# Altium integrated library NSC Comm CODEC Filter.IntLib: 31 symbols
Pins are listed as number, name and electrical type; pins without a type are passive.

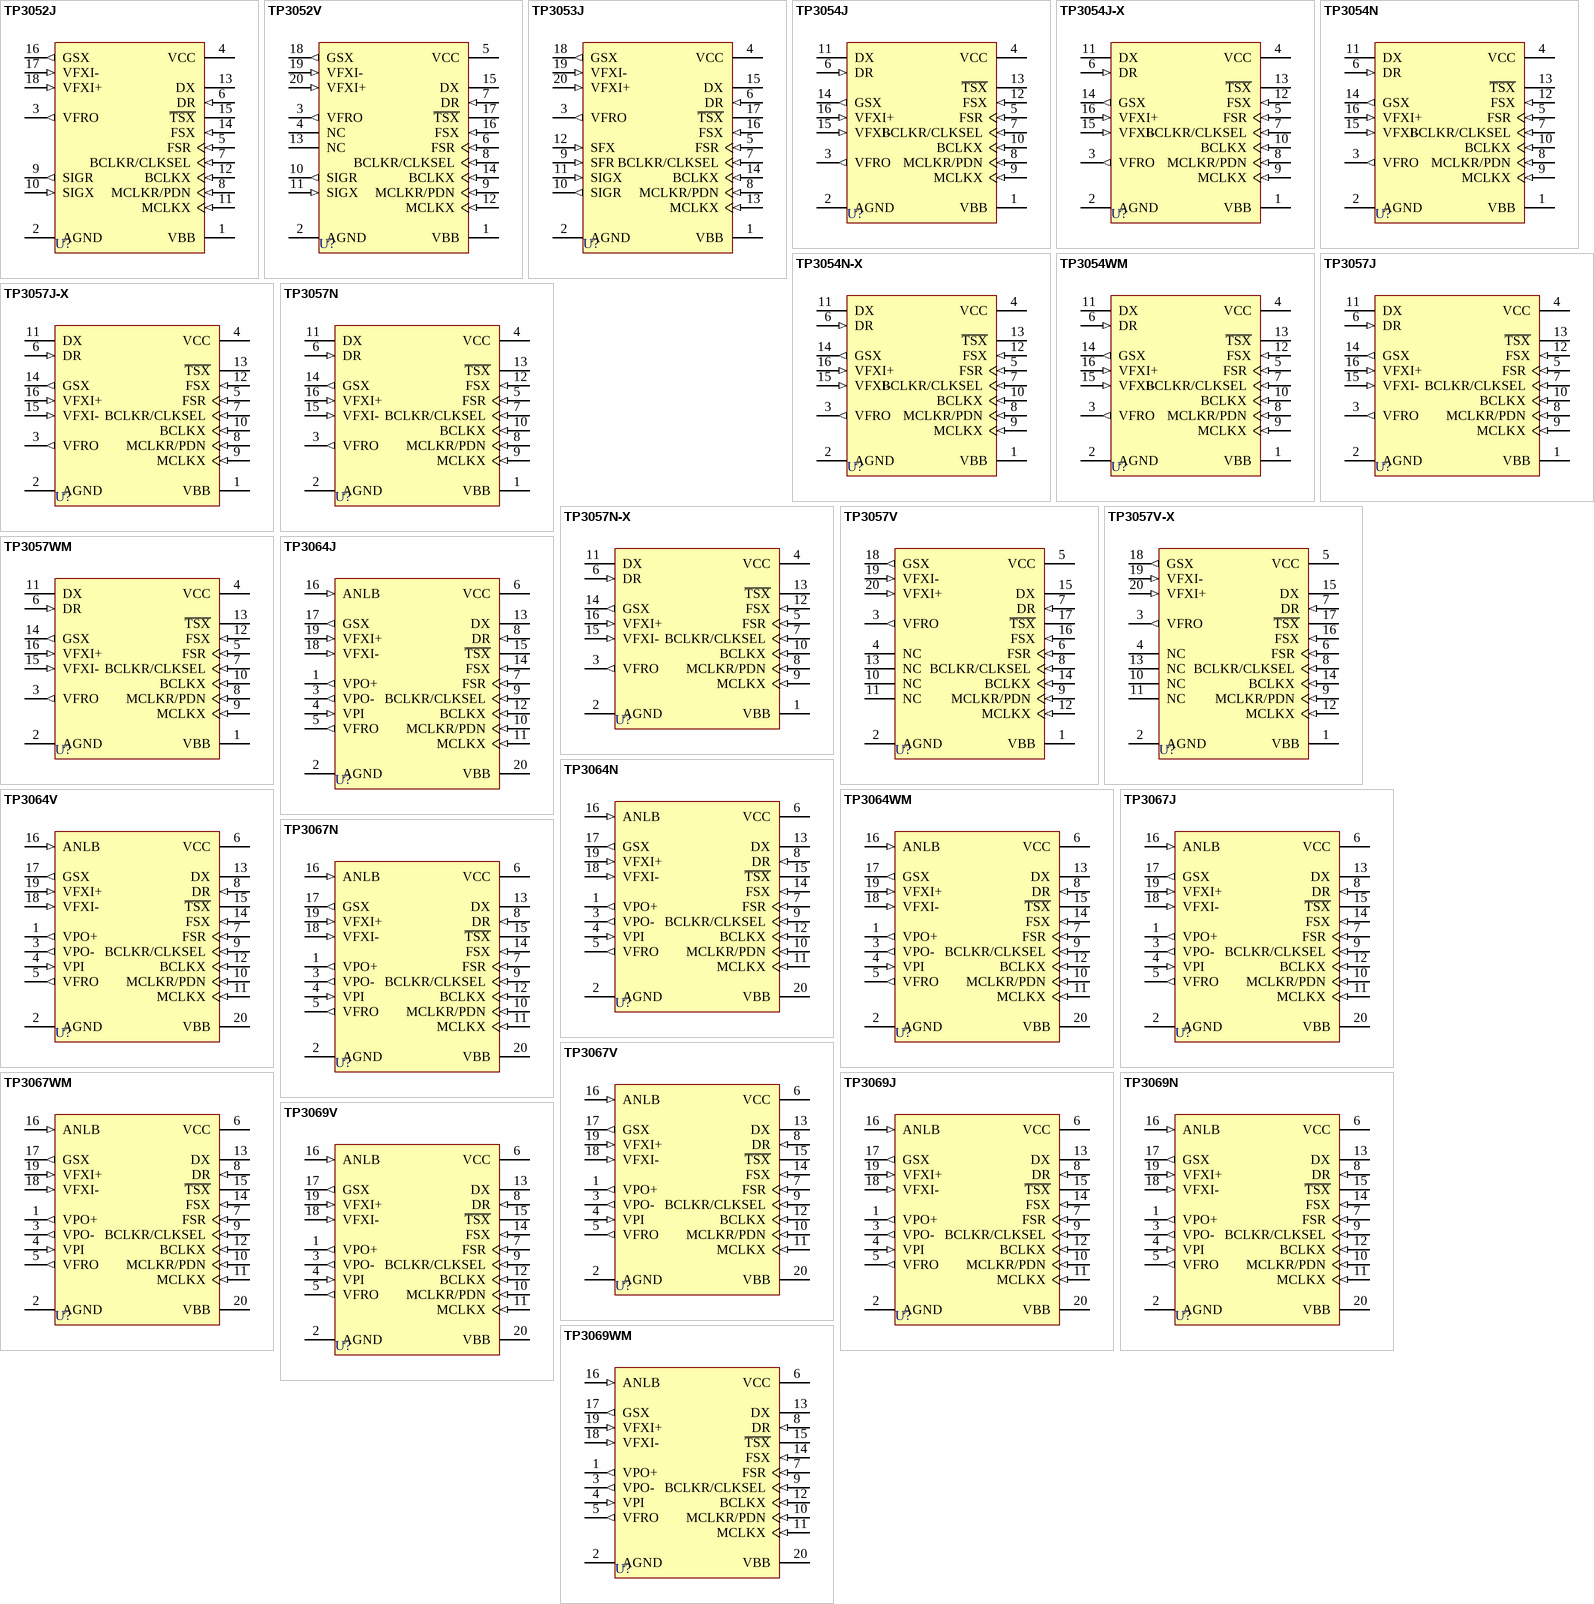
[diagram p0: symbols TP3052J to TP3069WM]

## TP3052J
designator U?
"Ruggedized" Serial Interface CODEC/Filter COMBO; Published: 15-Apr-2002; LatestRevisionDate: 06-Jun-2005; LatestRevisionNote: Stylized 3D Model Added.; DatasheetVersion: Mar-1991; PackageVersion: 1995; PackageReference: J18A; Publisher: Altium Limited; PackageDescription: DIP; 18 Leads; Row Spacing 7.62 mm; Pitch 2.54 mm; ComponentLink1Description: Manufacturer Link; ComponentLink1URL: http://www.national.com/
footprint J18A (DIP; 18 Leads; Row Spacing 7.62 mm; Pitch 2.54 mm)
3D model J18A (DIP; 18 Leads; Row Spacing 7.62 mm; Pitch 2.54 mm)
pins: 1 VBB (power), 2 AGND (power), 3 VFRO (out), 4 VCC (power), 5 FSR (in), 6 DR (in), 7 BCLKR/CLKSEL (in), 8 MCLKR/PDN (in), 9 SIGR (out), 10 SIGX (in), 11 MCLKX (in), 12 BCLKX (in), 13 DX (hiz), 14 FSX (in), 15 ~{TSX} (oc), 16 GSX (out), 17 VFXI- (in), 18 VFXI+ (in)

## TP3052V
designator U?
"Ruggedized" Serial Interface CODEC/Filter COMBO; Published: 15-Apr-2002; LatestRevisionDate: 13-Apr-2006; LatestRevisionNote: IPC-7351 Footprint Added.; DatasheetVersion: Mar-1991; PackageVersion: 1996; PackageReference: V20A; Publisher: Altium Limited; PackageDescription: 20-Pin Leaded Chip Carrier 1.27 mm Pitch; Code_IPC: PLCC-20; ComponentLink1Description: Manufacturer Link; ComponentLink1URL: http://www.national.com/
footprint V20A_N (Leaded Chip Carrier, 20-Leads, Body 9x9mm, Pitch 1.27mm, IPC Medium Density)
footprint V20A_L (Leaded Chip Carrier, 20-Leads, Body 9x9mm, Pitch 1.27mm, IPC High Density)
footprint V20A_M (Leaded Chip Carrier, 20-Leads, Body 9x9mm, Pitch 1.27mm, IPC Low Density)
3D model TP3052-V20A (20-Pin Leaded Chip Carrier 1.27 mm Pitch)
pins: 1 VBB (power), 2 AGND (power), 3 VFRO (out), 4 NC, 5 VCC (power), 6 FSR (in), 7 DR (in), 8 BCLKR/CLKSEL (in), 9 MCLKR/PDN (in), 10 SIGR (out), 11 SIGX (in), 12 MCLKX (in), 13 NC, 14 BCLKX (in), 15 DX (hiz), 16 FSX (in), 17 ~{TSX} (oc), 18 GSX (out), 19 VFXI- (in), 20 VFXI+ (in)

## TP3053J
designator U?
"Ruggedized" Serial Interface CODEC/Filter COMBO; Published: 15-Apr-2002; LatestRevisionDate: 06-Jun-2005; LatestRevisionNote: Stylized 3D Model Added.; DatasheetVersion: Mar-1991; PackageVersion: 2000; PackageReference: J20A; Publisher: Altium Limited; PackageDescription: DIP; 20 Leads; Row Spacing 7.62 mm; Pitch 2.54 mm; Code_JEDEC: MS-015-AE; ComponentLink1Description: Manufacturer Link; ComponentLink1URL: http://www.national.com/
footprint J20A (DIP; 20 Leads; Row Spacing 7.62 mm; Pitch 2.54 mm)
3D model J20A (DIP; 20 Leads; Row Spacing 7.62 mm; Pitch 2.54 mm)
pins: 1 VBB (power), 2 AGND (power), 3 VFRO (out), 4 VCC (power), 5 FSR (in), 6 DR (in), 7 BCLKR/CLKSEL (in), 8 MCLKR/PDN (in), 9 SFR (in), 10 SIGR (out), 11 SIGX (in), 12 SFX (in), 13 MCLKX (in), 14 BCLKX (in), 15 DX (hiz), 16 FSX (in), 17 ~{TSX} (oc), 18 GSX (out), 19 VFXI- (in), 20 VFXI+ (in)

## TP3054J
designator U?
"Ruggedized" Serial Interface CODEC/Filter COMBO; ComponentAvailability: Obsolete; Published: 15-Apr-2002; LatestRevisionDate: 06-Jun-2005; LatestRevisionNote: Stylized 3D Model Added.; DatasheetVersion: Mar-1991; PackageVersion: 2000; PackageReference: J16A; Publisher: Altium Limited; PackageDescription: DIP; 16 Leads; Row Spacing 7.62 mm; Pitch 2.54 mm; ComponentLink1Description: Manufacturer Link; ComponentLink1URL: http://www.national.com/; ComponentLink2Description: Datasheet; ComponentLink2URL: http://www.national.com/ds.cgi/TP/TP3054.pdf; ComponentLink3Description: Discontinuation Notice; ComponentLink3URL: http://www.national.com/obs/obsolescence.txt; ComponentLink4Description: URL Link1; ComponentLink4URL: http://www.national.com/pf/TP/TP3054.html
footprint J16A (DIP; 16 Leads; Row Spacing 7.62 mm; Pitch 2.54 mm)
3D model J16A (DIP; 16 Leads; Row Spacing 7.62 mm; Pitch 2.54 mm)
pins: 1 VBB (power), 2 AGND (power), 3 VFRO (out), 4 VCC (power), 5 FSR (in), 6 DR (in), 7 BCLKR/CLKSEL (in), 8 MCLKR/PDN (in), 9 MCLKX (in), 10 BCLKX (in), 11 DX (hiz), 12 FSX (in), 13 ~{TSX} (oc), 14 GSX (out), 15 VFXI- (in), 16 VFXI+ (in)

## TP3054J-X
designator U?
"Enhanced" Serial Interface CODEC/Filter COMBO; Published: 15-Apr-2002; LatestRevisionDate: 06-Jun-2005; LatestRevisionNote: Stylized 3D Model Added.; DatasheetVersion: Sep-1994; PackageVersion: 2000; PackageReference: J16A; Publisher: Altium Limited; PackageDescription: DIP; 16 Leads; Row Spacing 7.62 mm; Pitch 2.54 mm; ComponentLink1Description: Manufacturer Link; ComponentLink1URL: http://www.national.com/; ComponentLink2Description: Datasheet; ComponentLink2URL: http://www.national.com/ds.cgi/TP/TP3052-X.pdf; ComponentLink3Description: URL Link1; ComponentLink3URL: http://www.national.com/pf/TP/TP3054-X.html
footprint J16A (DIP; 16 Leads; Row Spacing 7.62 mm; Pitch 2.54 mm)
3D model J16A (DIP; 16 Leads; Row Spacing 7.62 mm; Pitch 2.54 mm)
pins: 1 VBB (power), 2 AGND (power), 3 VFRO (out), 4 VCC (power), 5 FSR (in), 6 DR (in), 7 BCLKR/CLKSEL (in), 8 MCLKR/PDN (in), 9 MCLKX (in), 10 BCLKX (in), 11 DX (hiz), 12 FSX (in), 13 ~{TSX} (oc), 14 GSX (out), 15 VFXI- (in), 16 VFXI+ (in)

## TP3054N
designator U?
"Ruggedized" Serial Interface CODEC/Filter COMBO; Published: 15-Apr-2002; LatestRevisionDate: 06-Jun-2005; LatestRevisionNote: Stylized 3D Model Added.; DatasheetVersion: Mar-1991; PackageVersion: 2000; PackageReference: N16A; Publisher: Altium Limited; PackageDescription: DIP; 16 Leads; Row Spacing 7.62 mm; Pitch 2.54 mm; ComponentLink1Description: Manufacturer Link; ComponentLink1URL: http://www.national.com/; ComponentLink2Description: Datasheet; ComponentLink2URL: http://www.national.com/ds.cgi/TP/TP3054.pdf; ComponentLink3Description: URL Link1; ComponentLink3URL: http://www.national.com/pf/TP/TP3054.html
footprint N16A (DIP; 16 Leads; Row Spacing 7.62 mm; Pitch 2.54 mm)
3D model N16A (DIP; 16 Leads; Row Spacing 7.62 mm; Pitch 2.54 mm)
pins: 1 VBB (power), 2 AGND (power), 3 VFRO (out), 4 VCC (power), 5 FSR (in), 6 DR (in), 7 BCLKR/CLKSEL (in), 8 MCLKR/PDN (in), 9 MCLKX (in), 10 BCLKX (in), 11 DX (hiz), 12 FSX (in), 13 ~{TSX} (oc), 14 GSX (out), 15 VFXI- (in), 16 VFXI+ (in)

## TP3054N-X
designator U?
"Enhanced" Serial Interface CODEC/Filter COMBO; Published: 15-Apr-2002; LatestRevisionDate: 06-Jun-2005; LatestRevisionNote: Stylized 3D Model Added.; DatasheetVersion: Sep-1994; PackageVersion: 2000; PackageReference: N16A; Publisher: Altium Limited; PackageDescription: DIP; 16 Leads; Row Spacing 7.62 mm; Pitch 2.54 mm; ComponentLink1Description: Manufacturer Link; ComponentLink1URL: http://www.national.com/; ComponentLink2Description: Datasheet; ComponentLink2URL: http://www.national.com/ds.cgi/TP/TP3052-X.pdf; ComponentLink3Description: URL Link1; ComponentLink3URL: http://www.national.com/pf/TP/TP3054-X.html
footprint N16A (DIP; 16 Leads; Row Spacing 7.62 mm; Pitch 2.54 mm)
3D model N16A (DIP; 16 Leads; Row Spacing 7.62 mm; Pitch 2.54 mm)
pins: 1 VBB (power), 2 AGND (power), 3 VFRO (out), 4 VCC (power), 5 FSR (in), 6 DR (in), 7 BCLKR/CLKSEL (in), 8 MCLKR/PDN (in), 9 MCLKX (in), 10 BCLKX (in), 11 DX (hiz), 12 FSX (in), 13 ~{TSX} (oc), 14 GSX (out), 15 VFXI- (in), 16 VFXI+ (in)

## TP3054WM
designator U?
"Ruggedized" Serial Interface CODEC/Filter COMBO; Published: 15-Apr-2002; LatestRevisionDate: 13-Apr-2006; LatestRevisionNote: IPC-7351 Footprint Added.; DatasheetVersion: Mar-1991; PackageVersion: 2000; PackageReference: M16B; Publisher: Altium Limited; PackageDescription: 16-Pin Small Outline Integrated Circuit 1.27 mm Pitch; Code_JEDEC: MS-013-AA; Code_IPC: SOIC127P1030-16; ComponentLink1Description: Manufacturer Link; ComponentLink1URL: http://www.national.com/; ComponentLink2Description: Datasheet; ComponentLink2URL: http://www.national.com/ds.cgi/TP/TP3054.pdf; ComponentLink3Description: URL Link1; ComponentLink3URL: http://www.national.com/pf/TP/TP3054.html
footprint M16B_N (SOIC, 16-Leads, Body 10.3x7.5mm, Pitch 1.27mm, IPC Medium Density)
footprint M16B_L (SOIC, 16-Leads, Body 10.3x7.5mm, Pitch 1.27mm, IPC High Density)
footprint M16B_M (SOIC, 16-Leads, Body 10.3x7.5mm, Pitch 1.27mm, IPC Low Density)
3D model M16B (16-Pin Small Outline Integrated Circuit 1.27 mm Pitch)
pins: 1 VBB (power), 2 AGND (power), 3 VFRO (out), 4 VCC (power), 5 FSR (in), 6 DR (in), 7 BCLKR/CLKSEL (in), 8 MCLKR/PDN (in), 9 MCLKX (in), 10 BCLKX (in), 11 DX (hiz), 12 FSX (in), 13 ~{TSX} (oc), 14 GSX (out), 15 VFXI- (in), 16 VFXI+ (in)

## TP3057J
designator U?
"Ruggedized" Serial Interface CODEC/Filter COMBO; ComponentAvailability: Obsolete; Published: 15-Apr-2002; LatestRevisionDate: 06-Jun-2005; LatestRevisionNote: Stylized 3D Model Added.; DatasheetVersion: Mar-1991; PackageVersion: 2000; PackageReference: J16A; Publisher: Altium Limited; PackageDescription: DIP; 16 Leads; Row Spacing 7.62 mm; Pitch 2.54 mm; ComponentLink1Description: Manufacturer Link; ComponentLink1URL: http://www.national.com/; ComponentLink2Description: Datasheet; ComponentLink2URL: http://www.national.com/ds.cgi/TP/TP3054.pdf; ComponentLink3Description: Discontinuation Notice; ComponentLink3URL: http://www.national.com/obs/obsolescence.txt; ComponentLink4Description: URL Link1; ComponentLink4URL: http://www.national.com/pf/TP/TP3057.html
footprint J16A (DIP; 16 Leads; Row Spacing 7.62 mm; Pitch 2.54 mm)
3D model J16A (DIP; 16 Leads; Row Spacing 7.62 mm; Pitch 2.54 mm)
pins: 1 VBB (power), 2 AGND (power), 3 VFRO (out), 4 VCC (power), 5 FSR (in), 6 DR (in), 7 BCLKR/CLKSEL (in), 8 MCLKR/PDN (in), 9 MCLKX (in), 10 BCLKX (in), 11 DX (hiz), 12 FSX (in), 13 ~{TSX} (oc), 14 GSX (out), 15 VFXI- (in), 16 VFXI+ (in)

## TP3057J-X
designator U?
"Enhanced" Serial Interface CODEC/Filter COMBO; ComponentAvailability: Obsolete; Published: 15-Apr-2002; LatestRevisionDate: 06-Jun-2005; LatestRevisionNote: Stylized 3D Model Added.; DatasheetVersion: Sep-1994; PackageVersion: 2000; PackageReference: J16A; Publisher: Altium Limited; PackageDescription: DIP; 16 Leads; Row Spacing 7.62 mm; Pitch 2.54 mm; ComponentLink1Description: Manufacturer Link; ComponentLink1URL: http://www.national.com/; ComponentLink2Description: Datasheet; ComponentLink2URL: http://www.national.com/ds.cgi/TP/TP3052-X.pdf; ComponentLink3Description: Discontinuation Notice; ComponentLink3URL: http://www.national.com/obs/obsolescence.txt; ComponentLink4Description: URL Link1; ComponentLink4URL: http://www.national.com/pf/TP/TP3057-X.html
footprint J16A (DIP; 16 Leads; Row Spacing 7.62 mm; Pitch 2.54 mm)
3D model J16A (DIP; 16 Leads; Row Spacing 7.62 mm; Pitch 2.54 mm)
pins: 1 VBB (power), 2 AGND (power), 3 VFRO (out), 4 VCC (power), 5 FSR (in), 6 DR (in), 7 BCLKR/CLKSEL (in), 8 MCLKR/PDN (in), 9 MCLKX (in), 10 BCLKX (in), 11 DX (hiz), 12 FSX (in), 13 ~{TSX} (oc), 14 GSX (out), 15 VFXI- (in), 16 VFXI+ (in)

## TP3057N
designator U?
"Ruggedized" Serial Interface CODEC/Filter COMBO; Published: 15-Apr-2002; LatestRevisionDate: 06-Jun-2005; LatestRevisionNote: Stylized 3D Model Added.; DatasheetVersion: Mar-1991; PackageVersion: 2000; PackageReference: N16A; Publisher: Altium Limited; PackageDescription: DIP; 16 Leads; Row Spacing 7.62 mm; Pitch 2.54 mm; ComponentLink1Description: Manufacturer Link; ComponentLink1URL: http://www.national.com/; ComponentLink2Description: Datasheet; ComponentLink2URL: http://www.national.com/ds.cgi/TP/TP3054.pdf; ComponentLink3Description: URL Link1; ComponentLink3URL: http://www.national.com/pf/TP/TP3057.html
footprint N16A (DIP; 16 Leads; Row Spacing 7.62 mm; Pitch 2.54 mm)
3D model N16A (DIP; 16 Leads; Row Spacing 7.62 mm; Pitch 2.54 mm)
pins: 1 VBB (power), 2 AGND (power), 3 VFRO (out), 4 VCC (power), 5 FSR (in), 6 DR (in), 7 BCLKR/CLKSEL (in), 8 MCLKR/PDN (in), 9 MCLKX (in), 10 BCLKX (in), 11 DX (hiz), 12 FSX (in), 13 ~{TSX} (oc), 14 GSX (out), 15 VFXI- (in), 16 VFXI+ (in)

## TP3057N-X
designator U?
"Enhanced" Serial Interface CODEC/Filter COMBO; ComponentAvailability: Obsolete; Published: 15-Apr-2002; LatestRevisionDate: 06-Jun-2005; LatestRevisionNote: Stylized 3D Model Added.; DatasheetVersion: Sep-1994; PackageVersion: 2000; PackageReference: N16A; Publisher: Altium Limited; PackageDescription: DIP; 16 Leads; Row Spacing 7.62 mm; Pitch 2.54 mm; ComponentLink1Description: Manufacturer Link; ComponentLink1URL: http://www.national.com/; ComponentLink2Description: Datasheet; ComponentLink2URL: http://www.national.com/ds.cgi/TP/TP3052-X.pdf; ComponentLink3Description: Discontinuation Notice; ComponentLink3URL: http://www.national.com/obs/obsolescence.txt; ComponentLink4Description: URL Link1; ComponentLink4URL: http://www.national.com/pf/TP/TP3057-X.html
footprint N16A (DIP; 16 Leads; Row Spacing 7.62 mm; Pitch 2.54 mm)
3D model N16A (DIP; 16 Leads; Row Spacing 7.62 mm; Pitch 2.54 mm)
pins: 1 VBB (power), 2 AGND (power), 3 VFRO (out), 4 VCC (power), 5 FSR (in), 6 DR (in), 7 BCLKR/CLKSEL (in), 8 MCLKR/PDN (in), 9 MCLKX (in), 10 BCLKX (in), 11 DX (hiz), 12 FSX (in), 13 ~{TSX} (oc), 14 GSX (out), 15 VFXI- (in), 16 VFXI+ (in)

## TP3057V
designator U?
"Ruggedized" Serial Interface CODEC/Filter COMBO; Published: 15-Apr-2002; LatestRevisionDate: 13-Apr-2006; LatestRevisionNote: IPC-7351 Footprint Added.; DatasheetVersion: Mar-1991; PackageVersion: 1996; PackageReference: V20A; Publisher: Altium Limited; PackageDescription: 20-Pin Leaded Chip Carrier 1.27 mm Pitch; Code_IPC: PLCC-20; ComponentLink1Description: Manufacturer Link; ComponentLink1URL: http://www.national.com/; ComponentLink2Description: Datasheet; ComponentLink2URL: http://www.national.com/ds.cgi/TP/TP3054.pdf; ComponentLink3Description: URL Link1; ComponentLink3URL: http://www.national.com/pf/TP/TP3057.html
footprint V20A_N (Leaded Chip Carrier, 20-Leads, Body 9x9mm, Pitch 1.27mm, IPC Medium Density)
footprint V20A_L (Leaded Chip Carrier, 20-Leads, Body 9x9mm, Pitch 1.27mm, IPC High Density)
footprint V20A_M (Leaded Chip Carrier, 20-Leads, Body 9x9mm, Pitch 1.27mm, IPC Low Density)
3D model TP3057-V20A (20-Pin Leaded Chip Carrier 1.27 mm Pitch)
pins: 1 VBB (power), 2 AGND (power), 3 VFRO (out), 4 NC, 5 VCC (power), 6 FSR (in), 7 DR (in), 8 BCLKR/CLKSEL (in), 9 MCLKR/PDN (in), 10 NC, 11 NC, 12 MCLKX (in), 13 NC, 14 BCLKX (in), 15 DX (hiz), 16 FSX (in), 17 ~{TSX} (oc), 18 GSX (out), 19 VFXI- (in), 20 VFXI+ (in)

## TP3057V-X
designator U?
"Enhanced" Serial Interface CODEC/Filter COMBO; Published: 15-Apr-2002; LatestRevisionDate: 13-Apr-2006; LatestRevisionNote: IPC-7351 Footprint Added.; DatasheetVersion: Sep-1994; PackageVersion: 1996; PackageReference: V20A; Publisher: Altium Limited; PackageDescription: 20-Pin Leaded Chip Carrier 1.27 mm Pitch; Code_IPC: PLCC-20; ComponentLink1Description: Manufacturer Link; ComponentLink1URL: http://www.national.com/; ComponentLink2Description: Datasheet; ComponentLink2URL: http://www.national.com/ds.cgi/TP/TP3052-X.pdf; ComponentLink3Description: URL Link1; ComponentLink3URL: http://www.national.com/pf/TP/TP3057-X.html
footprint V20A_N (Leaded Chip Carrier, 20-Leads, Body 9x9mm, Pitch 1.27mm, IPC Medium Density)
footprint V20A_L (Leaded Chip Carrier, 20-Leads, Body 9x9mm, Pitch 1.27mm, IPC High Density)
footprint V20A_M (Leaded Chip Carrier, 20-Leads, Body 9x9mm, Pitch 1.27mm, IPC Low Density)
3D model TP3057-V20A (20-Pin Leaded Chip Carrier 1.27 mm Pitch)
pins: 1 VBB (power), 2 AGND (power), 3 VFRO (out), 4 NC, 5 VCC (power), 6 FSR (in), 7 DR (in), 8 BCLKR/CLKSEL (in), 9 MCLKR/PDN (in), 10 NC, 11 NC, 12 MCLKX (in), 13 NC, 14 BCLKX (in), 15 DX (hiz), 16 FSX (in), 17 ~{TSX} (oc), 18 GSX (out), 19 VFXI- (in), 20 VFXI+ (in)

## TP3057WM
designator U?
"Ruggedized" Serial Interface CODEC/Filter COMBO; Published: 15-Apr-2002; LatestRevisionDate: 13-Apr-2006; LatestRevisionNote: IPC-7351 Footprint Added.; DatasheetVersion: Mar-1991; PackageVersion: 2000; PackageReference: M16B; Publisher: Altium Limited; PackageDescription: 16-Pin Small Outline Integrated Circuit 1.27 mm Pitch; Code_JEDEC: MS-013-AA; Code_IPC: SOIC127P1030-16; ComponentLink1Description: Manufacturer Link; ComponentLink1URL: http://www.national.com/; ComponentLink2Description: Datasheet; ComponentLink2URL: http://www.national.com/ds.cgi/TP/TP3054.pdf; ComponentLink3Description: URL Link1; ComponentLink3URL: http://www.national.com/pf/TP/TP3057.html
footprint M16B_N (SOIC, 16-Leads, Body 10.3x7.5mm, Pitch 1.27mm, IPC Medium Density)
footprint M16B_L (SOIC, 16-Leads, Body 10.3x7.5mm, Pitch 1.27mm, IPC High Density)
footprint M16B_M (SOIC, 16-Leads, Body 10.3x7.5mm, Pitch 1.27mm, IPC Low Density)
3D model M16B (16-Pin Small Outline Integrated Circuit 1.27 mm Pitch)
pins: 1 VBB (power), 2 AGND (power), 3 VFRO (out), 4 VCC (power), 5 FSR (in), 6 DR (in), 7 BCLKR/CLKSEL (in), 8 MCLKR/PDN (in), 9 MCLKX (in), 10 BCLKX (in), 11 DX (hiz), 12 FSX (in), 13 ~{TSX} (oc), 14 GSX (out), 15 VFXI- (in), 16 VFXI+ (in)

## TP3064J
designator U?
"Enhanced" Serial Interface CMOS CODEC/Filter COMBO; ComponentAvailability: Obsolete; Published: 15-Apr-2002; LatestRevisionDate: 06-Jun-2005; LatestRevisionNote: Stylized 3D Model Added.; DatasheetVersion: Oct-1991; PackageVersion: 2000; PackageReference: J20A; Publisher: Altium Limited; PackageDescription: DIP; 20 Leads; Row Spacing 7.62 mm; Pitch 2.54 mm; Code_JEDEC: MS-015-AE; ComponentLink1Description: Manufacturer Link; ComponentLink1URL: http://www.national.com/; ComponentLink2Description: Datasheet; ComponentLink2URL: http://www.national.com/ds.cgi/TP/TP3064.pdf; ComponentLink3Description: Discontinuation Notice; ComponentLink3URL: http://www.national.com/obs/obsolescence.txt; ComponentLink4Description: URL Link1; ComponentLink4URL: http://www.national.com/pf/TP/TP3064.html
footprint J20A (DIP; 20 Leads; Row Spacing 7.62 mm; Pitch 2.54 mm)
3D model J20A (DIP; 20 Leads; Row Spacing 7.62 mm; Pitch 2.54 mm)
pins: 1 VPO+ (out), 2 AGND (power), 3 VPO- (out), 4 VPI (in), 5 VFRO (out), 6 VCC (power), 7 FSR (in), 8 DR (in), 9 BCLKR/CLKSEL (in), 10 MCLKR/PDN (in), 11 MCLKX (in), 12 BCLKX (in), 13 DX (hiz), 14 FSX (in), 15 ~{TSX} (oc), 16 ANLB (in), 17 GSX (out), 18 VFXI- (in), 19 VFXI+ (in), 20 VBB (power)

## TP3064N
designator U?
"Enhanced" Serial Interface CMOS CODEC/Filter COMBO; ComponentAvailability: Obsolete; Published: 15-Apr-2002; LatestRevisionDate: 06-Jun-2005; LatestRevisionNote: Stylized 3D Model Added.; DatasheetVersion: Oct-1991; PackageVersion: 2000; PackageReference: N20A; Publisher: Altium Limited; PackageDescription: DIP; 20 Leads; Row Spacing 7.62 mm; Pitch 2.54 mm; Code_JEDEC: MS-001-AD; ComponentLink1Description: Manufacturer Link; ComponentLink1URL: http://www.national.com/; ComponentLink2Description: Datasheet; ComponentLink2URL: http://www.national.com/ds.cgi/TP/TP3064.pdf; ComponentLink3Description: Discontinuation Notice; ComponentLink3URL: http://www.national.com/obs/obsolescence.txt; ComponentLink4Description: URL Link1; ComponentLink4URL: http://www.national.com/pf/TP/TP3064.html
footprint N20A (DIP; 20 Leads; Row Spacing 7.62 mm; Pitch 2.54 mm)
3D model N20A (DIP; 20 Leads; Row Spacing 7.62 mm; Pitch 2.54 mm)
pins: 1 VPO+ (out), 2 AGND (power), 3 VPO- (out), 4 VPI (in), 5 VFRO (out), 6 VCC (power), 7 FSR (in), 8 DR (in), 9 BCLKR/CLKSEL (in), 10 MCLKR/PDN (in), 11 MCLKX (in), 12 BCLKX (in), 13 DX (hiz), 14 FSX (in), 15 ~{TSX} (oc), 16 ANLB (in), 17 GSX (out), 18 VFXI- (in), 19 VFXI+ (in), 20 VBB (power)

## TP3064V
designator U?
"Enhanced" Serial Interface CMOS CODEC/Filter COMBO; Published: 15-Apr-2002; LatestRevisionDate: 13-Apr-2006; LatestRevisionNote: IPC-7351 Footprint Added.; DatasheetVersion: Oct-1991; PackageVersion: 1996; PackageReference: V20A; Publisher: Altium Limited; PackageDescription: 20-Pin Leaded Chip Carrier 1.27 mm Pitch; Code_IPC: PLCC-20; ComponentLink1Description: Manufacturer Link; ComponentLink1URL: http://www.national.com/; ComponentLink2Description: Datasheet; ComponentLink2URL: http://www.national.com/ds.cgi/TP/TP3064.pdf; ComponentLink3Description: URL Link1; ComponentLink3URL: http://www.national.com/pf/TP/TP3064.html
footprint V20A_N (Leaded Chip Carrier, 20-Leads, Body 9x9mm, Pitch 1.27mm, IPC Medium Density)
footprint V20A_L (Leaded Chip Carrier, 20-Leads, Body 9x9mm, Pitch 1.27mm, IPC High Density)
footprint V20A_M (Leaded Chip Carrier, 20-Leads, Body 9x9mm, Pitch 1.27mm, IPC Low Density)
3D model TP3064-V20A (20-Pin Leaded Chip Carrier 1.27 mm Pitch)
pins: 1 VPO+ (out), 2 AGND (power), 3 VPO- (out), 4 VPI (in), 5 VFRO (out), 6 VCC (power), 7 FSR (in), 8 DR (in), 9 BCLKR/CLKSEL (in), 10 MCLKR/PDN (in), 11 MCLKX (in), 12 BCLKX (in), 13 DX (hiz), 14 FSX (in), 15 ~{TSX} (oc), 16 ANLB (in), 17 GSX (out), 18 VFXI- (in), 19 VFXI+ (in), 20 VBB (power)

## TP3064WM
designator U?
"Enhanced" Serial Interface CMOS CODEC/Filter COMBO; Published: 15-Apr-2002; LatestRevisionDate: 13-Apr-2006; LatestRevisionNote: IPC-7351 Footprint Added.; DatasheetVersion: Oct-1991; PackageVersion: 2000; PackageReference: M20B; Publisher: Altium Limited; PackageDescription: 20-Pin Small Outline Integrated Circuit 1.27 mm Pitch; Code_JEDEC: MS-013-AC; Code_IPC: SOIC127P1030-20; ComponentLink1Description: Manufacturer Link; ComponentLink1URL: http://www.national.com/; ComponentLink2Description: Datasheet; ComponentLink2URL: http://www.national.com/ds.cgi/TP/TP3064.pdf; ComponentLink3Description: URL Link1; ComponentLink3URL: http://www.national.com/pf/TP/TP3064.html
footprint M20B_N (SOIC, 20-Leads, Body 12.8x7.5mm, Pitch 1.27mm, IPC Medium Density)
footprint M20B_L (SOIC, 20-Leads, Body 12.8x7.5mm, Pitch 1.27mm, IPC High Density)
footprint M20B_M (SOIC, 20-Leads, Body 12.8x7.5mm, Pitch 1.27mm, IPC Low Density)
3D model M20B (20-Pin Small Outline Integrated Circuit 1.27 mm Pitch)
pins: 1 VPO+ (out), 2 AGND (power), 3 VPO- (out), 4 VPI (in), 5 VFRO (out), 6 VCC (power), 7 FSR (in), 8 DR (in), 9 BCLKR/CLKSEL (in), 10 MCLKR/PDN (in), 11 MCLKX (in), 12 BCLKX (in), 13 DX (hiz), 14 FSX (in), 15 ~{TSX} (oc), 16 ANLB (in), 17 GSX (out), 18 VFXI- (in), 19 VFXI+ (in), 20 VBB (power)

## TP3067J
designator U?
"Enhanced" Serial Interface CMOS CODEC/Filter COMBO; ComponentAvailability: Obsolete; Published: 15-Apr-2002; LatestRevisionDate: 06-Jun-2005; LatestRevisionNote: Stylized 3D Model Added.; DatasheetVersion: Oct-1991; PackageVersion: 2000; PackageReference: J20A; Publisher: Altium Limited; PackageDescription: DIP; 20 Leads; Row Spacing 7.62 mm; Pitch 2.54 mm; Code_JEDEC: MS-015-AE; ComponentLink1Description: Manufacturer Link; ComponentLink1URL: http://www.national.com/; ComponentLink2Description: Datasheet; ComponentLink2URL: http://www.national.com/ds.cgi/TP/TP3064.pdf; ComponentLink3Description: Discontinuation Notice; ComponentLink3URL: http://www.national.com/obs/obsolescence.txt; ComponentLink4Description: URL Link1; ComponentLink4URL: http://www.national.com/pf/TP/TP3067.html
footprint J20A (DIP; 20 Leads; Row Spacing 7.62 mm; Pitch 2.54 mm)
3D model J20A (DIP; 20 Leads; Row Spacing 7.62 mm; Pitch 2.54 mm)
pins: 1 VPO+ (out), 2 AGND (power), 3 VPO- (out), 4 VPI (in), 5 VFRO (out), 6 VCC (power), 7 FSR (in), 8 DR (in), 9 BCLKR/CLKSEL (in), 10 MCLKR/PDN (in), 11 MCLKX (in), 12 BCLKX (in), 13 DX (hiz), 14 FSX (in), 15 ~{TSX} (oc), 16 ANLB (in), 17 GSX (out), 18 VFXI- (in), 19 VFXI+ (in), 20 VBB (power)

## TP3067N
designator U?
"Enhanced" Serial Interface CMOS CODEC/Filter COMBO; Published: 15-Apr-2002; LatestRevisionDate: 06-Jun-2005; LatestRevisionNote: Stylized 3D Model Added.; DatasheetVersion: Oct-1991; PackageVersion: 2000; PackageReference: N20A; Publisher: Altium Limited; PackageDescription: DIP; 20 Leads; Row Spacing 7.62 mm; Pitch 2.54 mm; Code_JEDEC: MS-001-AD; ComponentLink1Description: Manufacturer Link; ComponentLink1URL: http://www.national.com/; ComponentLink2Description: Datasheet; ComponentLink2URL: http://www.national.com/ds.cgi/TP/TP3064.pdf; ComponentLink3Description: URL Link1; ComponentLink3URL: http://www.national.com/pf/TP/TP3067.html
footprint N20A (DIP; 20 Leads; Row Spacing 7.62 mm; Pitch 2.54 mm)
3D model N20A (DIP; 20 Leads; Row Spacing 7.62 mm; Pitch 2.54 mm)
pins: 1 VPO+ (out), 2 AGND (power), 3 VPO- (out), 4 VPI (in), 5 VFRO (out), 6 VCC (power), 7 FSR (in), 8 DR (in), 9 BCLKR/CLKSEL (in), 10 MCLKR/PDN (in), 11 MCLKX (in), 12 BCLKX (in), 13 DX (hiz), 14 FSX (in), 15 ~{TSX} (oc), 16 ANLB (in), 17 GSX (out), 18 VFXI- (in), 19 VFXI+ (in), 20 VBB (power)

## TP3067V
designator U?
"Enhanced" Serial Interface CMOS CODEC/Filter COMBO; Published: 15-Apr-2002; LatestRevisionDate: 13-Apr-2006; LatestRevisionNote: IPC-7351 Footprint Added.; DatasheetVersion: Oct-1991; PackageVersion: 1996; PackageReference: V20A; Publisher: Altium Limited; PackageDescription: 20-Pin Leaded Chip Carrier 1.27 mm Pitch; Code_IPC: PLCC-20; ComponentLink1Description: Manufacturer Link; ComponentLink1URL: http://www.national.com/; ComponentLink2Description: Datasheet; ComponentLink2URL: http://www.national.com/ds.cgi/TP/TP3064.pdf; ComponentLink3Description: URL Link1; ComponentLink3URL: http://www.national.com/pf/TP/TP3067.html
footprint V20A_N (Leaded Chip Carrier, 20-Leads, Body 9x9mm, Pitch 1.27mm, IPC Medium Density)
footprint V20A_L (Leaded Chip Carrier, 20-Leads, Body 9x9mm, Pitch 1.27mm, IPC High Density)
footprint V20A_M (Leaded Chip Carrier, 20-Leads, Body 9x9mm, Pitch 1.27mm, IPC Low Density)
3D model TP3067-V20A (20-Pin Leaded Chip Carrier 1.27 mm Pitch)
pins: 1 VPO+ (out), 2 AGND (power), 3 VPO- (out), 4 VPI (in), 5 VFRO (out), 6 VCC (power), 7 FSR (in), 8 DR (in), 9 BCLKR/CLKSEL (in), 10 MCLKR/PDN (in), 11 MCLKX (in), 12 BCLKX (in), 13 DX (hiz), 14 FSX (in), 15 ~{TSX} (oc), 16 ANLB (in), 17 GSX (out), 18 VFXI- (in), 19 VFXI+ (in), 20 VBB (power)

## TP3067WM
designator U?
"Enhanced" Serial Interface CMOS CODEC/Filter COMBO; Published: 15-Apr-2002; LatestRevisionDate: 13-Apr-2006; LatestRevisionNote: IPC-7351 Footprint Added.; DatasheetVersion: Oct-1991; PackageVersion: 2000; PackageReference: M20B; Publisher: Altium Limited; PackageDescription: 20-Pin Small Outline Integrated Circuit 1.27 mm Pitch; Code_JEDEC: MS-013-AC; Code_IPC: SOIC127P1030-20; ComponentLink1Description: Manufacturer Link; ComponentLink1URL: http://www.national.com/; ComponentLink2Description: Datasheet; ComponentLink2URL: http://www.national.com/ds.cgi/TP/TP3064.pdf; ComponentLink3Description: URL Link1; ComponentLink3URL: http://www.national.com/pf/TP/TP3067.html
footprint M20B_N (SOIC, 20-Leads, Body 12.8x7.5mm, Pitch 1.27mm, IPC Medium Density)
footprint M20B_L (SOIC, 20-Leads, Body 12.8x7.5mm, Pitch 1.27mm, IPC High Density)
footprint M20B_M (SOIC, 20-Leads, Body 12.8x7.5mm, Pitch 1.27mm, IPC Low Density)
3D model M20B (20-Pin Small Outline Integrated Circuit 1.27 mm Pitch)
pins: 1 VPO+ (out), 2 AGND (power), 3 VPO- (out), 4 VPI (in), 5 VFRO (out), 6 VCC (power), 7 FSR (in), 8 DR (in), 9 BCLKR/CLKSEL (in), 10 MCLKR/PDN (in), 11 MCLKX (in), 12 BCLKX (in), 13 DX (hiz), 14 FSX (in), 15 ~{TSX} (oc), 16 ANLB (in), 17 GSX (out), 18 VFXI- (in), 19 VFXI+ (in), 20 VBB (power)

## TP3069J
designator U?
"Enhanced" Serial Interface CMOS CODEC/Filter COMBO; ComponentAvailability: Obsolete; Published: 15-Apr-2002; LatestRevisionDate: 06-Jun-2005; LatestRevisionNote: Stylized 3D Model Added.; DatasheetVersion: Sep-1994; PackageVersion: 2000; PackageReference: J20A; Publisher: Altium Limited; PackageDescription: DIP; 20 Leads; Row Spacing 7.62 mm; Pitch 2.54 mm; Code_JEDEC: MS-015-AE; ComponentLink1Description: Manufacturer Link; ComponentLink1URL: http://www.national.com/; ComponentLink2Description: Datasheet; ComponentLink2URL: http://www.national.com/ds.cgi/TP/TP3069.pdf; ComponentLink3Description: Discontinuation Notice; ComponentLink3URL: http://www.national.com/obs/obsolescence.txt; ComponentLink4Description: URL Link1; ComponentLink4URL: http://www.national.com/pf/TP/TP3069.html
footprint J20A (DIP; 20 Leads; Row Spacing 7.62 mm; Pitch 2.54 mm)
3D model J20A (DIP; 20 Leads; Row Spacing 7.62 mm; Pitch 2.54 mm)
pins: 1 VPO+ (out), 2 AGND (power), 3 VPO- (out), 4 VPI (in), 5 VFRO (out), 6 VCC (power), 7 FSR (in), 8 DR (in), 9 BCLKR/CLKSEL (in), 10 MCLKR/PDN (in), 11 MCLKX (in), 12 BCLKX (in), 13 DX (hiz), 14 FSX (in), 15 ~{TSX} (oc), 16 ANLB (in), 17 GSX (out), 18 VFXI- (in), 19 VFXI+ (in), 20 VBB (power)

## TP3069N
designator U?
"Enhanced" Serial Interface CMOS CODEC/Filter COMBO; ComponentAvailability: Obsolete; Published: 15-Apr-2002; LatestRevisionDate: 06-Jun-2005; LatestRevisionNote: Stylized 3D Model Added.; DatasheetVersion: Sep-1994; PackageVersion: 2000; PackageReference: N20A; Publisher: Altium Limited; PackageDescription: DIP; 20 Leads; Row Spacing 7.62 mm; Pitch 2.54 mm; Code_JEDEC: MS-001-AD; ComponentLink1Description: Manufacturer Link; ComponentLink1URL: http://www.national.com/; ComponentLink2Description: Datasheet; ComponentLink2URL: http://www.national.com/ds.cgi/TP/TP3069.pdf; ComponentLink3Description: Discontinuation Notice; ComponentLink3URL: http://www.national.com/obs/obsolescence.txt; ComponentLink4Description: URL Link1; ComponentLink4URL: http://www.national.com/pf/TP/TP3069.html
footprint N20A (DIP; 20 Leads; Row Spacing 7.62 mm; Pitch 2.54 mm)
3D model N20A (DIP; 20 Leads; Row Spacing 7.62 mm; Pitch 2.54 mm)
pins: 1 VPO+ (out), 2 AGND (power), 3 VPO- (out), 4 VPI (in), 5 VFRO (out), 6 VCC (power), 7 FSR (in), 8 DR (in), 9 BCLKR/CLKSEL (in), 10 MCLKR/PDN (in), 11 MCLKX (in), 12 BCLKX (in), 13 DX (hiz), 14 FSX (in), 15 ~{TSX} (oc), 16 ANLB (in), 17 GSX (out), 18 VFXI- (in), 19 VFXI+ (in), 20 VBB (power)

## TP3069V
designator U?
"Enhanced" Serial Interface CMOS CODEC/Filter COMBO; ComponentAvailability: Obsolete; Published: 15-Apr-2002; LatestRevisionDate: 13-Apr-2006; LatestRevisionNote: IPC-7351 Footprint Added.; DatasheetVersion: Sep-1994; PackageVersion: 1996; PackageReference: V20A; Publisher: Altium Limited; PackageDescription: 20-Pin Leaded Chip Carrier 1.27 mm Pitch; Code_IPC: PLCC-20; ComponentLink1Description: Manufacturer Link; ComponentLink1URL: http://www.national.com/; ComponentLink2Description: Datasheet; ComponentLink2URL: http://www.national.com/ds.cgi/TP/TP3069.pdf; ComponentLink3Description: Discontinuation Notice; ComponentLink3URL: http://www.national.com/obs/obsolescence.txt; ComponentLink4Description: URL Link1; ComponentLink4URL: http://www.national.com/pf/TP/TP3069.html
footprint V20A_N (Leaded Chip Carrier, 20-Leads, Body 9x9mm, Pitch 1.27mm, IPC Medium Density)
footprint V20A_L (Leaded Chip Carrier, 20-Leads, Body 9x9mm, Pitch 1.27mm, IPC High Density)
footprint V20A_M (Leaded Chip Carrier, 20-Leads, Body 9x9mm, Pitch 1.27mm, IPC Low Density)
3D model TP3069-V20A (20-Pin Leaded Chip Carrier 1.27 mm Pitch)
pins: 1 VPO+ (out), 2 AGND (power), 3 VPO- (out), 4 VPI (in), 5 VFRO (out), 6 VCC (power), 7 FSR (in), 8 DR (in), 9 BCLKR/CLKSEL (in), 10 MCLKR/PDN (in), 11 MCLKX (in), 12 BCLKX (in), 13 DX (hiz), 14 FSX (in), 15 ~{TSX} (oc), 16 ANLB (in), 17 GSX (out), 18 VFXI- (in), 19 VFXI+ (in), 20 VBB (power)

## TP3069WM
designator U?
"Enhanced" Serial Interface CMOS CODEC/Filter COMBO; Published: 15-Apr-2002; LatestRevisionDate: 13-Apr-2006; LatestRevisionNote: IPC-7351 Footprint Added.; DatasheetVersion: Sep-1994; PackageVersion: 2000; PackageReference: M20B; Publisher: Altium Limited; PackageDescription: 20-Pin Small Outline Integrated Circuit 1.27 mm Pitch; Code_JEDEC: MS-013-AC; Code_IPC: SOIC127P1030-20; ComponentLink1Description: Manufacturer Link; ComponentLink1URL: http://www.national.com/; ComponentLink2Description: Datasheet; ComponentLink2URL: http://www.national.com/ds.cgi/TP/TP3069.pdf; ComponentLink3Description: URL Link1; ComponentLink3URL: http://www.national.com/pf/TP/TP3069.html
footprint M20B_N (SOIC, 20-Leads, Body 12.8x7.5mm, Pitch 1.27mm, IPC Medium Density)
footprint M20B_L (SOIC, 20-Leads, Body 12.8x7.5mm, Pitch 1.27mm, IPC High Density)
footprint M20B_M (SOIC, 20-Leads, Body 12.8x7.5mm, Pitch 1.27mm, IPC Low Density)
3D model M20B (20-Pin Small Outline Integrated Circuit 1.27 mm Pitch)
pins: 1 VPO+ (out), 2 AGND (power), 3 VPO- (out), 4 VPI (in), 5 VFRO (out), 6 VCC (power), 7 FSR (in), 8 DR (in), 9 BCLKR/CLKSEL (in), 10 MCLKR/PDN (in), 11 MCLKX (in), 12 BCLKX (in), 13 DX (hiz), 14 FSX (in), 15 ~{TSX} (oc), 16 ANLB (in), 17 GSX (out), 18 VFXI- (in), 19 VFXI+ (in), 20 VBB (power)

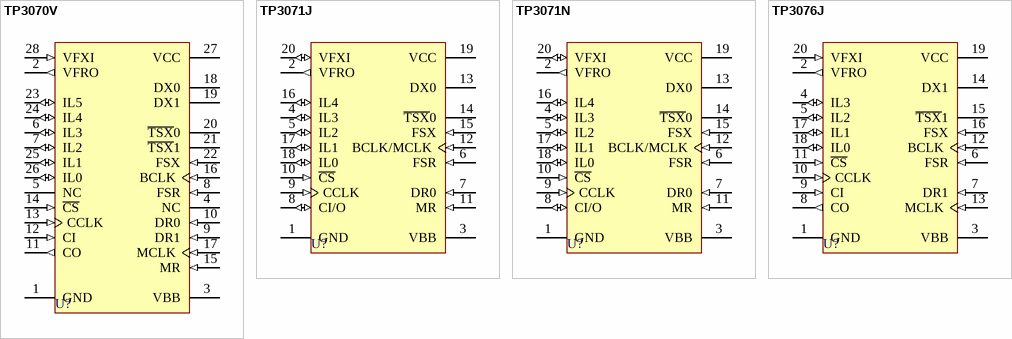
[diagram p1: symbols TP3070V to TP3076J]

## TP3070V
designator U?
COMBO II Programmable PCM CODEC/Filter; Published: 15-Apr-2002; LatestRevisionDate: 13-Apr-2006; LatestRevisionNote: IPC-7351 Footprint Added.; DatasheetVersion: Apr-1994; PackageVersion: 2000; PackageReference: V28A; Publisher: Altium Limited; PackageDescription: 28-Pin Leaded Chip Carrier 1.27 mm Pitch; Code_IPC: PLCC-28; ComponentLink1Description: Manufacturer Link; ComponentLink1URL: http://www.national.com/; ComponentLink2Description: Datasheet; ComponentLink2URL: http://www.national.com/ds.cgi/TP/TP3070.pdf; ComponentLink3Description: URL Link1; ComponentLink3URL: http://www.national.com/pf/TP/TP3070.html
footprint V28A_N (Leaded Chip Carrier, 28-Leads, Body 11.5x11.5mm, Pitch 1.27mm, IPC Medium Density)
footprint V28A_L (Leaded Chip Carrier, 28-Leads, Body 11.5x11.5mm, Pitch 1.27mm, IPC High Density)
footprint V28A_M (Leaded Chip Carrier, 28-Leads, Body 11.5x11.5mm, Pitch 1.27mm, IPC Low Density)
3D model TP3070-V28A (28-Pin Leaded Chip Carrier 1.27 mm Pitch)
pins: 1 GND (power), 2 VFRO (out), 3 VBB (power), 4 NC, 5 NC, 6 IL3 (io), 7 IL2 (io), 8 FSR (in), 9 DR1 (in), 10 DR0 (in), 11 CO (out), 12 CI (in), 13 CCLK (in), 14 ~{CS} (in), 15 MR (in), 16 BCLK (in), 17 MCLK (in), 18 DX0 (hiz), 19 DX1 (hiz), 20 ~{TSX}0 (oc), 21 ~{TSX}1 (oc), 22 FSX (in), 23 IL5 (io), 24 IL4 (io), 25 IL1 (io), 26 IL0 (io), 27 VCC (power), 28 VFXI (in)

## TP3071J
designator U?
COMBO II Programmable PCM CODEC/Filter; Published: 15-Apr-2002; LatestRevisionDate: 06-Jun-2005; LatestRevisionNote: Stylized 3D Model Added.; DatasheetVersion: Apr-1994; PackageVersion: 2000; PackageReference: J20A; Publisher: Altium Limited; PackageDescription: DIP; 20 Leads; Row Spacing 7.62 mm; Pitch 2.54 mm; Code_JEDEC: MS-015-AE; ComponentLink1Description: Manufacturer Link; ComponentLink1URL: http://www.national.com/; ComponentLink2Description: Datasheet; ComponentLink2URL: http://www.national.com/ds.cgi/TP/TP3070.pdf; ComponentLink3Description: URL Link1; ComponentLink3URL: http://www.national.com/pf/TP/TP3071.html
footprint J20A (DIP; 20 Leads; Row Spacing 7.62 mm; Pitch 2.54 mm)
3D model J20A (DIP; 20 Leads; Row Spacing 7.62 mm; Pitch 2.54 mm)
pins: 1 GND (power), 2 VFRO (out), 3 VBB (power), 4 IL3 (io), 5 IL2 (io), 6 FSR (in), 7 DR0 (in), 8 CI/O (io), 9 CCLK (in), 10 ~{CS} (in), 11 MR (in), 12 BCLK/MCLK (in), 13 DX0 (hiz), 14 ~{TSX}0 (oc), 15 FSX (in), 16 IL4 (io), 17 IL1 (io), 18 IL0 (io), 19 VCC (power), 20 VFXI (io)

## TP3071N
designator U?
COMBO II Programmable PCM CODEC/Filter; Published: 15-Apr-2002; LatestRevisionDate: 06-Jun-2005; LatestRevisionNote: Stylized 3D Model Added.; DatasheetVersion: Apr-1994; PackageVersion: 2000; PackageReference: N20A; Publisher: Altium Limited; PackageDescription: DIP; 20 Leads; Row Spacing 7.62 mm; Pitch 2.54 mm; Code_JEDEC: MS-001-AD; ComponentLink1Description: Manufacturer Link; ComponentLink1URL: http://www.national.com/; ComponentLink2Description: Datasheet; ComponentLink2URL: http://www.national.com/ds.cgi/TP/TP3070.pdf; ComponentLink3Description: URL Link1; ComponentLink3URL: http://www.national.com/pf/TP/TP3071.html
footprint N20A (DIP; 20 Leads; Row Spacing 7.62 mm; Pitch 2.54 mm)
3D model N20A (DIP; 20 Leads; Row Spacing 7.62 mm; Pitch 2.54 mm)
pins: 1 GND (power), 2 VFRO (out), 3 VBB (power), 4 IL3 (io), 5 IL2 (io), 6 FSR (in), 7 DR0 (in), 8 CI/O (io), 9 CCLK (in), 10 ~{CS} (in), 11 MR (in), 12 BCLK/MCLK (in), 13 DX0 (hiz), 14 ~{TSX}0 (oc), 15 FSX (in), 16 IL4 (io), 17 IL1 (io), 18 IL0 (io), 19 VCC (power), 20 VFXI (io)

## TP3076J
designator U?
COMBO II Programmable PCM CODEC/Filter for ISDN and Digital Phone Applications; Published: 15-Apr-2002; LatestRevisionDate: 06-Jun-2005; LatestRevisionNote: Stylized 3D Model Added.; DatasheetVersion: Apr-1994; PackageVersion: 2000; PackageReference: J20A; Publisher: Altium Limited; PackageDescription: DIP; 20 Leads; Row Spacing 7.62 mm; Pitch 2.54 mm; Code_JEDEC: MS-015-AE; ComponentLink1Description: Manufacturer Link; ComponentLink1URL: http://www.national.com/; ComponentLink2Description: Datasheet; ComponentLink2URL: http://www.national.com/ds.cgi/TP/TP3076.pdf; ComponentLink3Description: URL Link1; ComponentLink3URL: http://www.national.com/pf/TP/TP3076.html
footprint J20A (DIP; 20 Leads; Row Spacing 7.62 mm; Pitch 2.54 mm)
3D model J20A (DIP; 20 Leads; Row Spacing 7.62 mm; Pitch 2.54 mm)
pins: 1 GND (power), 2 VFRO (out), 3 VBB (power), 4 IL3 (io), 5 IL2 (io), 6 FSR (in), 7 DR1 (in), 8 CO (out), 9 CI (in), 10 CCLK (in), 11 ~{CS} (in), 12 BCLK (in), 13 MCLK (in), 14 DX1 (hiz), 15 ~{TSX}1 (oc), 16 FSX (in), 17 IL1 (io), 18 IL0 (io), 19 VCC (power), 20 VFXI (in)